# Altium schematic symbol library DM3CS-SF.SchLib: 1 symbol
Pins are listed as number, name and electrical type; pins without a type are passive.

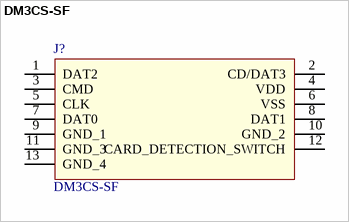
[diagram p0: symbol DM3CS-SF]

## DM3CS-SF
designator J?
MicroSD card connector, push-pull type MicroSD card connector, push-pull type; Manufacturer_Name: Hirose; Manufacturer_Part_Number: DM3CS-SF; RS Part Number: 1664833; RS Price/Stock: http://uk.rs-online.com/web/p/products/1664833; Arrow Part Number: DM3CS-SF; Arrow Price/Stock: https://www.arrow.com/en/products/dm3cs-sf/hirose-electric; Datasheet Link: http://docs-europe.electrocomponents.com/webdocs/118f/0900766b8118f8bb.pdf
footprint DM3CS-SF
pins: 1 DAT2, 2 CD/DAT3, 3 CMD, 4 VDD, 5 CLK, 6 VSS, 7 DAT0, 8 DAT1, 9 GND_1, 10 GND_2, 11 GND_3, 12 CARD_DETECTION_SWITCH, 13 GND_4